# Altium footprint library ESP32WROOM32EN4.PcbLib: 1 footprints
Each footprint in its own frame and in the unit in brackets; x right, y up, seen from the top. Pads: shape width x height; smd on the part's side, far side on the other; paste and mask are expansions set on the pad; w line width, h text height; cw(c..) or ccw(c..) is an arc to the next point about the centre after c.
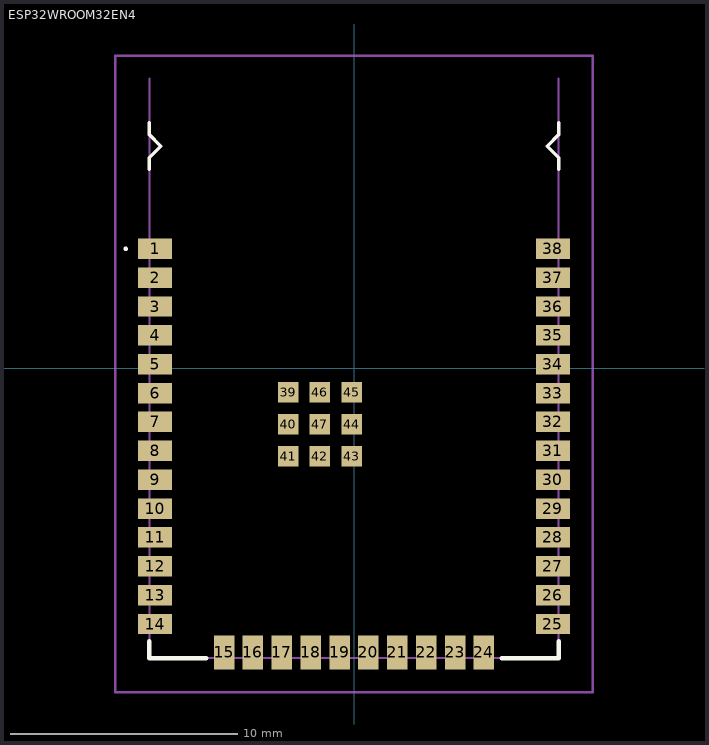
[diagram p0: the footprint, top view; thin cyan lines are the x and y axes]

## ESP32WROOM32EN4 [mm]
pads (47):
  rect 1.5x0.9 smd: 1(-8.75,5.26) 2(-8.75,3.99) 3(-8.75,2.72) 4(-8.75,1.45) 5(-8.75,0.18) 6(-8.75,-1.09) 7(-8.75,-2.36) 8(-8.75,-3.63) 9(-8.75,-4.9) 10(-8.75,-6.17) 11(-8.75,-7.44) 12(-8.75,-8.71) 13(-8.75,-9.98) 14(-8.75,-11.25) 25(8.75,-11.25) 26(8.75,-9.98) 27(8.75,-8.71) 28(8.75,-7.44) 29(8.75,-6.17) 30(8.75,-4.9) 31(8.75,-3.63) 32(8.75,-2.36) 33(8.75,-1.09) 34(8.75,0.18) 35(8.75,1.45) 36(8.75,2.72) 37(8.75,3.99) 38(8.75,5.26)
  rect 0.9x1.5 smd: 15(-5.715,-12.5) 16(-4.445,-12.5) 17(-3.175,-12.5) 18(-1.905,-12.5) 19(-0.635,-12.5) 20(0.635,-12.5) 21(1.905,-12.5) 22(3.175,-12.5) 23(4.445,-12.5) 24(5.715,-12.5)
  rect 0.9x0.9 smd: 39(-2.9,-1.06) 40(-2.9,-2.46) 41(-2.9,-3.86) 42(-1.5,-3.86) 43(-0.1,-3.86) 44(-0.1,-2.46) 45(-0.1,-1.06) 46(-1.5,-1.06) 47(-1.5,-2.46)
Top Overlay:
  lines w0.1: -10.1,5.26 cw(c-10.05,5.26) -10,5.26 cw(c-10.05,5.26) -10.1,5.26
  lines w0.152: -9.017,8.763 -9.017,9.271 -8.509,9.779 -9.017,10.287 -9.017,10.795 ; 9.017,8.763 9.017,9.271 8.509,9.779 9.017,10.287 9.017,10.795
  lines w0.2: -9,-12 -9,-12.75 -6.5,-12.75 ; 6.5,-12.75 9,-12.75 9,-12
Mechanical 15:
  lines w0.1: -9,12.75 -9,-12.75 9,-12.75 9,12.75
Mechanical 20:
  lines w0.1: -10.5,-14.25 -10.5,13.75 10.5,13.75 10.5,-14.25 -10.5,-14.25
3D body "ESP32-WROOM-32E-N4.STEP": height 3.25, standoff 0, extent -9,-12.75 9,12.75